# EAGLE library part FT312D (library FT31xD)
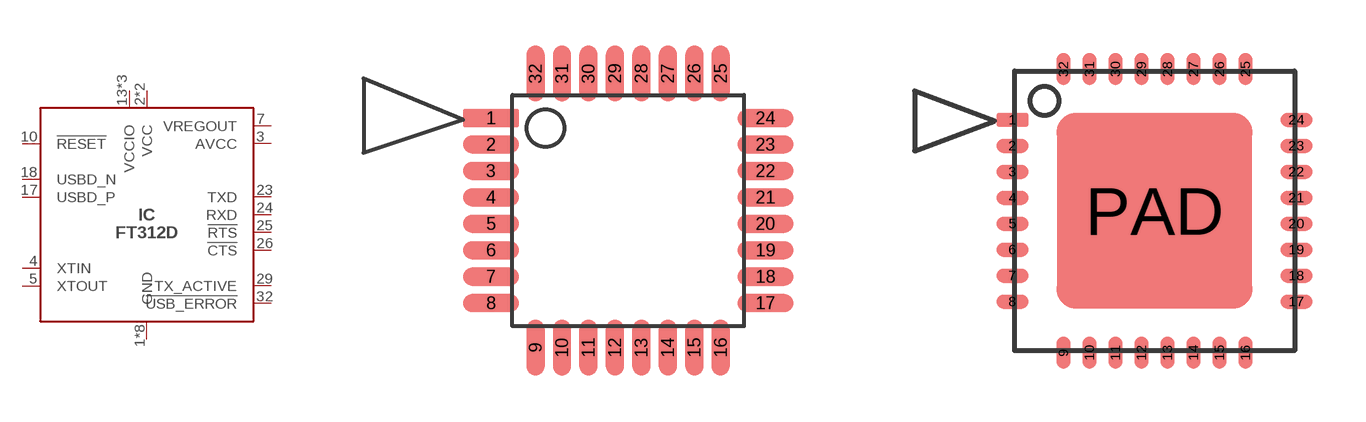
[diagram p0: symbol with the pads of LQFP32-7X7; footprints LQFP32-7X7, QFN32-7X7]

Designator prefix IC

## FT312D-32L1C  [LQFP32-7X7]
1  GND  in
2  VCC  in
3  AVCC  in
4  XTIN  in
5  XTOUT  out
6  GND  in
7  VREGOUT  out
8  GND  in
9  VCC  in
10  !RESET  in
13  VCCIO  in
14  GND  in
15  GND  in
16  GND  in
17  USBD_P
18  USBD_N
19  GND  in
22  VCCIO  in
23  TXD  out
24  RXD  in
25  !RTS  out
26  !CTS  in
27  GND  in
28  VCCIO  in
29  TX_ACTIVE  out
32  !USB_ERROR  out

## FT312D-32Q1C  [QFN32-7X7]
1  GND  in
2  VCC  in
3  AVCC  in
4  XTIN  in
5  XTOUT  out
6  GND  in
7  VREGOUT  out
8  GND  in
9  VCC  in
10  !RESET  in
13  VCCIO  in
14  GND  in
15  GND  in
16  GND  in
17  USBD_P
18  USBD_N
19  GND  in
22  VCCIO  in
23  TXD  out
24  RXD  in
25  !RTS  out
26  !CTS  in
27  GND  in
28  VCCIO  in
29  TX_ACTIVE  out
32  !USB_ERROR  out
PAD  GND  in

## Footprint LQFP32-7X7 (pad centres in mm)
smd 1.7 x 0.55: 1 -4.15,2.8; 2 -4.15,2; 3 -4.15,1.2; 4 -4.15,0.4; 5 -4.15,-0.4; 6 -4.15,-1.2; 7 -4.15,-2; 8 -4.15,-2.8; 17 4.15,-2.8; 18 4.15,-2; 19 4.15,-1.2; 20 4.15,-0.4; 21 4.15,0.4; 22 4.15,1.2; 23 4.15,2; 24 4.15,2.8
smd 0.55 x 1.7: 9 -2.8,-4.15; 10 -2,-4.15; 11 -1.2,-4.15; 12 -0.4,-4.15; 13 0.4,-4.15; 14 1.2,-4.15; 15 2,-4.15; 16 2.8,-4.15; 25 2.8,4.15; 26 2,4.15; 27 1.2,4.15; 28 0.4,4.15; 29 -0.4,4.15; 30 -1.2,4.15; 31 -2,4.15; 32 -2.8,4.15

## Footprint QFN32-7X7 (pad centres in mm)
smd 0.8 x 0.35: 1 -3.55,2.275; 2 -3.55,1.625; 3 -3.55,0.975; 4 -3.55,0.325; 5 -3.55,-0.325; 6 -3.55,-0.975; 7 -3.55,-1.625; 8 -3.55,-2.275; 17 3.55,-2.275; 18 3.55,-1.625; 19 3.55,-0.975; 20 3.55,-0.325; 21 3.55,0.325; 22 3.55,0.975; 23 3.55,1.625; 24 3.55,2.275
smd 0.35 x 0.8: 9 -2.275,-3.55; 10 -1.625,-3.55; 11 -0.975,-3.55; 12 -0.325,-3.55; 13 0.325,-3.55; 14 0.975,-3.55; 15 1.625,-3.55; 16 2.275,-3.55; 25 2.275,3.55; 26 1.625,3.55; 27 0.975,3.55; 28 0.325,3.55; 29 -0.325,3.55; 30 -0.975,3.55; 31 -1.625,3.55; 32 -2.275,3.55
smd 4.9 x 4.9: PAD 0,0